# EAGLE library part TML10 (library noah)
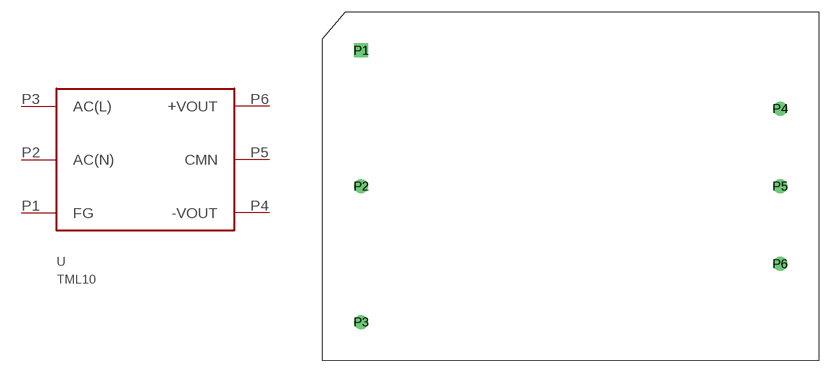
[diagram p42: symbol with the pads of TML10; footprint TML10]

Designator prefix -

## TML10  [TML10]
P1  FG
P2  AC(N)
P3  AC(L)
P4  -VOUT
P5  CMN
P6  +VOUT

## Footprint TML10 (pad centres in mm)
drill 1.2 square: P1 0,17.5
drill 1.2: P2 0,0; P3 0,-17.5; P4 54,10; P5 54,0; P6 54,-10